# EAGLE library part ANALOG,INT-AMP-PROG#1 (library QuantumOptics)
Instrumentation Amplifier, programmable gain, such as AD8253.
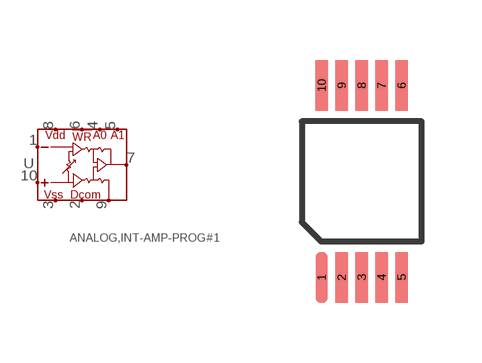
[diagram p228: symbol with the pads of MSOP10; footprint MSOP10]

Designator prefix U

## ANALOG,INT-AMP-PROG#1-MSOP10  [MSOP10]
1  IN-  in
2  DGND
3  VSS
4  A0  in
5  A1  in
6  !WR  in
7  OUT  out
8  VDD
9  REF  in
10  IN+  in

## Footprint MSOP10 (pad centres in mm)
MSOP-10, JEDEC MO-187AB. Sameas Maxim's µsop-10 and TI's VSSOP DGA (S-PDSO-G10).
smd 0.305 x 1.27: 1 -1,-2.4; 2 -0.5,-2.4; 3 0,-2.4; 4 0.5,-2.4; 5 1,-2.4; 6 1,2.4; 7 0.5,2.4; 8 0,2.4; 9 -0.5,2.4; 10 -1,2.4